# EAGLE library part NKK_DPDT (library Sam-lib_test)
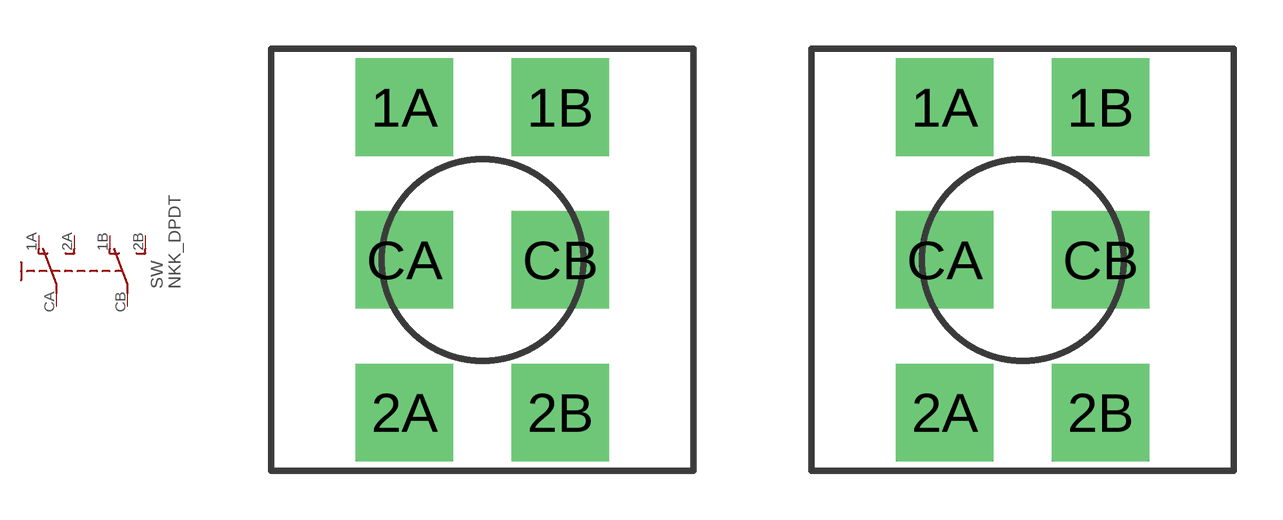
[diagram p0: symbol with the pads of NKK_DPDT; footprints NKK_DPDT, NKK_DPDT_PINS]

Designator prefix SW

## NKK_DPDTLUGS  [NKK_DPDT]
1A  1A  pas
1B  1B  pas
2A  2A  pas
2B  2B  pas
CA  CA  pas
CB  CB  pas

## NKK_DPDTPINS  [NKK_DPDT_PINS]
Pads as for NKK_DPDT

## Footprint NKK_DPDT (pad centres in mm)
TOGGLE SWITCH distributor RS Components
drill 2 pad 3 square: 1A -2.4,4.7; 1B 2.4,4.7; 2A -2.4,-4.7; 2B 2.4,-4.7; CA -2.4,0; CB 2.4,0

## Footprint NKK_DPDT_PINS (pad centres in mm)
TOGGLE SWITCH distributor RS Components
drill 2 pad 3 square: 1A -2.4,4.7; 1B 2.4,4.7; 2A -2.4,-4.7; 2B 2.4,-4.7; CA -2.4,0; CB 2.4,0